# Altium footprint library Connector.PcbLib: 2 footprints
Each footprint in its own frame and in the unit in brackets; x right, y up, seen from the top. Pads: shape width x height; smd on the part's side, far side on the other; paste and mask are expansions set on the pad; w line width, h text height; cw(c..) or ccw(c..) is an arc to the next point about the centre after c.
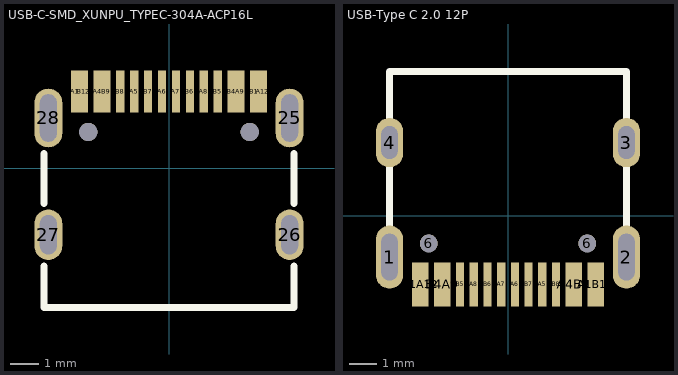
[diagram p0: the footprints below, top view; thin cyan lines are the x and y axes]

## USB-C-SMD_XUNPU_TYPEC-304A-ACP16L [mm]
pads (22):
  oval 1x2.1 hole 0.6 slot 1.7 at 90 deg: 25(4.32,1.808) 28(-4.32,1.808)
  oval 1x1.8 hole 0.6 slot 1.4 at 90 deg: 26(4.32,-2.372) 27(-4.32,-2.372)
  rect 0.3x1.5 smd: A1(-3.35,2.754) A4(-2.55,2.754) A5(-1.25,2.754) A6(-0.25,2.754) A7(0.25,2.754) A8(1.25,2.754) A9(2.55,2.754) A12(3.35,2.754) B1(3.05,2.754) B4(2.25,2.754) B5(1.75,2.754) B6(0.75,2.754) B7(-0.75,2.754) B8(-1.75,2.754) B9(-2.25,2.754) B12(-3.05,2.754)
  round 0.65 hole 0.65 unplated: ""(-2.89,1.308) ""(2.89,1.308)
Top Overlay:
  lines w0.254: -4.47,-3.488 -4.47,-4.972 4.47,-4.972 4.47,-3.488 ; -4.47,-1.257 -4.47,0.542 ; 4.47,-1.257 4.47,0.542
Top Paste:
  drawing of 16 lines, arcs and shapes, not listed
Mechanical 15:
  circle w0.25: c-2.89,1.308 r0.125
  circle w0.25: c2.89,1.308 r0.125
3D body "User Library-USB - C.step": height 3.26, standoff -1, extent -4.475,-4.953 4.475,2.797

## USB-Type C 2.0 12P [mm]
pads (18):
  oval 1x2.3 hole 0.6 slot 1.702 at 90 deg: 1(-4.321,-1.503) 2(4.321,-1.503)
  oval 1x1.8 hole 0.6 slot 1.199 at 90 deg: 3(4.321,2.675) 4(-4.321,2.675)
  round 0.65 hole 0.65: 6(-2.891,-1.004) 6(2.891,-1.004)
  rect 0.6x1.6 smd: A1B12(3.202,-2.497) A4B9(2.402,-2.497) B1A12(-3.198,-2.497) B4A9(-2.398,-2.497)
  rect 0.3x1.6 smd: A5(1.252,-2.497) A6(0.253,-2.497) A7(-0.249,-2.497) A8(-1.248,-2.497) B5(-1.748,-2.497) B6(-0.747,-2.497) B7(0.751,-2.497) B8(1.752,-2.497)
Top Overlay:
  lines w0.254: -4.321,-1.503 -4.321,2.675 -4.321,5.258 4.321,5.258 4.321,2.675 4.321,-1.503
3D body "User Library-USB - C.step": height 3.26, standoff -1, extent -4.475,-2.416 4.475,5.334